# EAGLE library part UBLOX_NEO-M8N (library gps_logger)
UBLOX NEO-M8N GPS MODULE
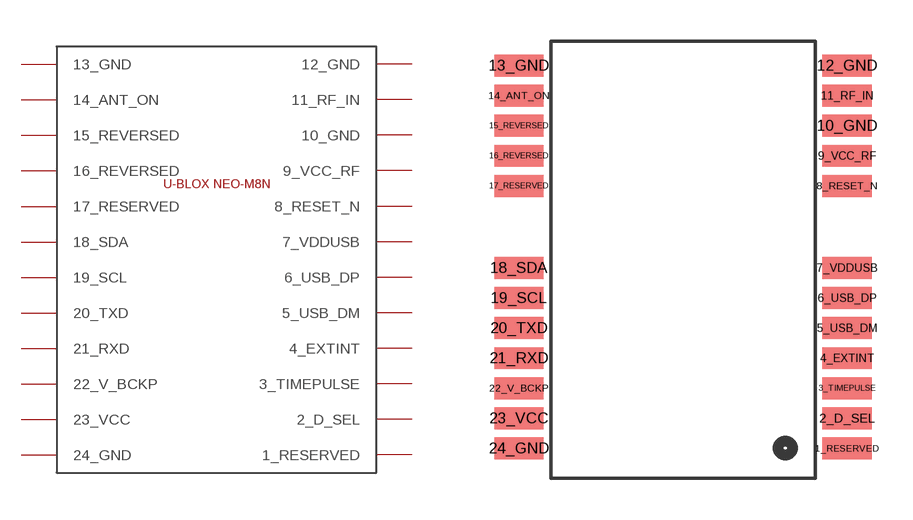
[diagram p1: symbol with the pads of UBLOX_NEO-M8N; footprint UBLOX_NEO-M8N]

Designator prefix DEKU

## UBLOX_NEO-M8N  [UBLOX_NEO-M8N]
1_RESERVED  1_RESERVED
2_D_SEL  2_D_SEL
3_TIMEPULSE  3_TIMEPULSE
4_EXTINT  4_EXTINT
5_USB_DM  5_USB_DM
6_USB_DP  6_USB_DP
7_VDDUSB  7_VDDUSB
8_RESET_N  8_RESET_N
9_VCC_RF  9_VCC_RF
10_GND  10_GND
11_RF_IN  11_RF_IN
12_GND  12_GND
13_GND  13_GND
14_ANT_ON  14_ANT_ON
15_REVERSED  15_REVERSED
16_REVERSED  16_REVERSED
17_RESERVED  17_RESERVED
18_SDA  18_SDA
19_SCL  19_SCL
20_TXD  20_TXD
21_RXD  21_RXD
22_V_BCKP  22_V_BCKP
23_VCC  23_VCC
24_GND  24_GND

## Footprint UBLOX_NEO-M8N (pad centres in mm)
NEO-M8N
smd 1.8 x 0.8: 1_RESERVED 6.4,-7.4; 2_D_SEL 6.4,-6.3; 3_TIMEPULSE 6.4,-5.2; 4_EXTINT 6.4,-4.1; 5_USB_DM 6.4,-3; 6_USB_DP 6.4,-1.9; 7_VDDUSB 6.4,-0.8; 8_RESET_N 6.4,2.2; 9_VCC_RF 6.4,3.3; 10_GND 6.4,4.4; 11_RF_IN 6.4,5.5; 12_GND 6.4,6.6; 13_GND -5.6,6.6; 14_ANT_ON -5.6,5.5; 15_REVERSED -5.6,4.4; 16_REVERSED -5.6,3.3; 17_RESERVED -5.6,2.2; 18_SDA -5.6,-0.8; 19_SCL -5.6,-1.9; 20_TXD -5.6,-3; 21_RXD -5.6,-4.1; 22_V_BCKP -5.6,-5.2; 23_VCC -5.6,-6.3; 24_GND -5.6,-7.4